# EAGLE library part VIDEO_PORT (library Amiga)
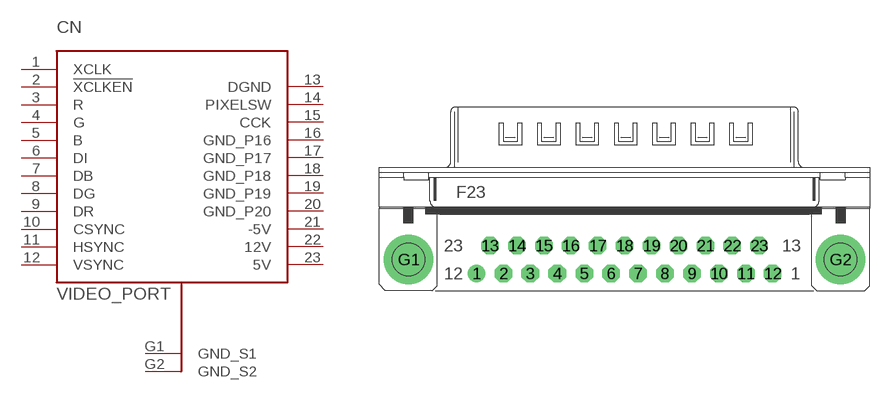
[diagram p27: symbol with the pads of F23H_FC; footprint F23H_FC]

Designator prefix CN

## VIDEO_PORT_23D_SUB_F  [F23H_FC]
1  XCLK
2  !XCLKEN!
3  R
4  G
5  B
6  DI
7  DB
8  DG
9  DR
10  CSYNC
11  HSYNC
12  VSYNC
13  DGND
14  PIXELSW
15  CCK
16  GND_P16
17  GND_P17
18  GND_P18
19  GND_P19
20  GND_P20
21  -5V
22  12V
23  5V
G1  GND_S1  pwr
G2  GND_S2  pwr

## Footprint F23H_FC (pad centres in mm)
drill 0.9 pad 1.8: 1 -15.172,-1.429
drill 0.9 pad 1.8 octagon: 2 -12.403,-1.429; 3 -9.66,-1.429; 4 -6.891,-1.429; 5 -4.123,-1.429; 6 -1.38,-1.429; 7 1.389,-1.429; 8 4.158,-1.429; 9 6.901,-1.429; 10 9.669,-1.429; 11 12.438,-1.429; 12 15.181,-1.429; 13 -13.8,1.429; 14 -11.032,1.429; 15 -8.263,1.429; 16 -5.52,1.429; 17 -2.751,1.429; 18 0.017,1.429; 19 2.761,1.429; 20 5.529,1.429; 21 8.298,1.429; 22 11.041,1.429; 23 13.81,1.429
drill 3.302 pad 5.08: G1 -22.131,0; G2 22.131,0